# Altium footprint library 1THS.PcbLib: 1 footprints
Each footprint in its own frame and in the unit in brackets; x right, y up, seen from the top. Pads: shape width x height; smd on the part's side, far side on the other; paste and mask are expansions set on the pad; w line width, h text height; cw(c..) or ccw(c..) is an arc to the next point about the centre after c.
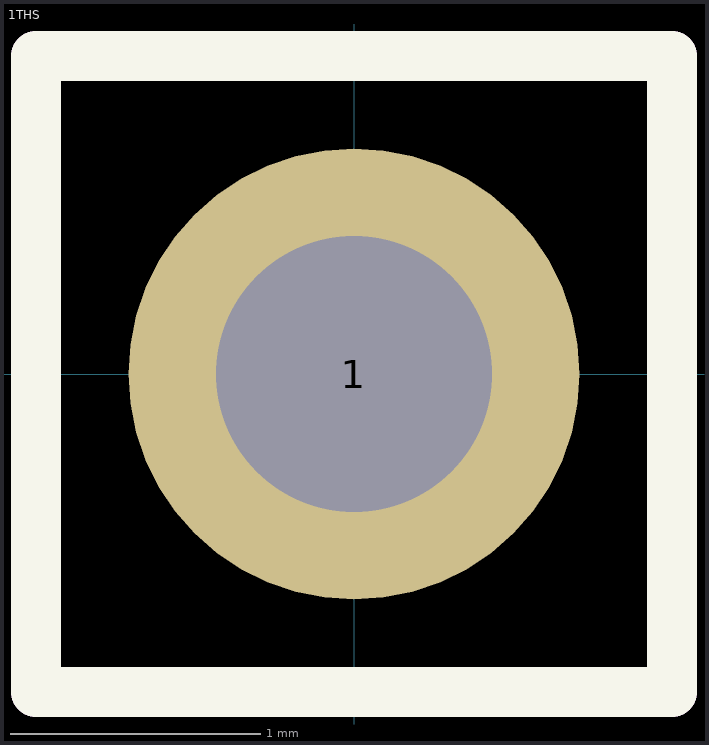
[diagram p0: the footprint, top view; thin cyan lines are the x and y axes]

## 1THS [mm]
pads (1):
  round 1.8 hole 1.1: 1(0,0)
Top Overlay:
  lines w0.2: 1.27,-1.27 1.27,1.27 ; 1.27,-1.27 1.27,-1.27 ; 1.27,-1.27 -1.27,-1.27 -1.27,1.27 1.27,1.27 ; 1.27,1.27 1.27,1.27
Mechanical 7:
  circle w0.2: c0,0 r0.5
  lines w0.2: 1.27,-1.27 1.27,1.27 ; 1.27,-1.27 1.27,-1.27 ; 1.27,-1.27 -1.27,-1.27 -1.27,1.27 1.27,1.27 ; 1.27,1.27 1.27,1.27